# Altium footprint library Discrete_Resistors_Ceramic_SMD.PcbLib: 6 footprints
Each footprint in its own frame and in the unit in brackets; x right, y up, seen from the top. Pads: shape width x height; smd on the part's side, far side on the other; paste and mask are expansions set on the pad; w line width, h text height; cw(c..) or ccw(c..) is an arc to the next point about the centre after c.
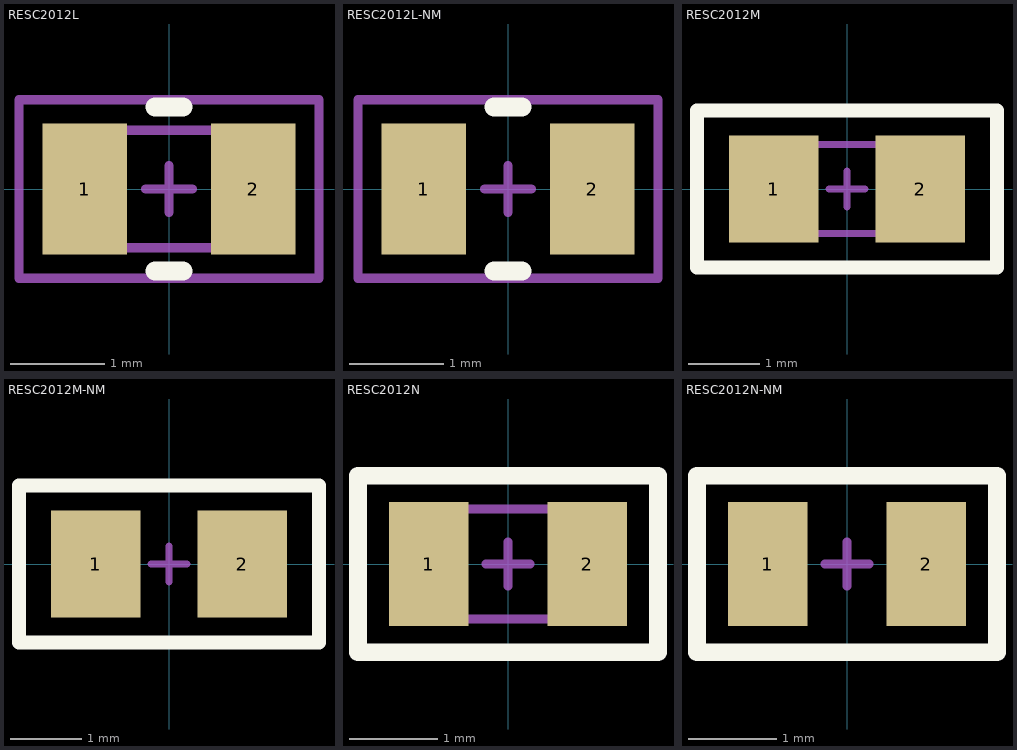
[diagram p0: the footprints below, top view; thin cyan lines are the x and y axes]

## RESC2012L [mm]
height 0.5
pads (2):
  rect 0.9x1.4 smd: 1(-0.9,0) 2(0.9,0)
Top Overlay:
  lines w0.2: -0.15,-0.875 0.15,-0.875 ; -0.15,0.875 0.15,0.875
Top Package:
  lines w0.1: -0.625,-0.625 -0.625,0.625 ; 0.6,-0.625 0.6,0.625 ; -1,-0.625 -1,0.625 1,0.625 1,-0.625 -1,-0.625
Top Comment:
  text ".Comment" at -1.414,-0.31 h1
Top Designator:
  text ".Designator" at -2.064,-0.265 h1.2
Top Border:
  lines w0.1: -0.25,0 0.25,0 ; 0,-0.25 0,0.25 ; -1.6,-0.95 1.6,-0.95 1.6,0.95 -1.6,0.95 -1.6,-0.95
3D body "User Library-Res_Vishay_CRCW0805_2012.step": height 0.45, standoff 0, extent -1,-0.625 1,0.625

## RESC2012L-NM [mm]
height 0.5
pads (2):
  rect 0.9x1.4 smd: 1(-0.9,0) 2(0.9,0)
Top Overlay:
  lines w0.2: -0.15,-0.875 0.15,-0.875 ; -0.15,0.875 0.15,0.875
Top Designator:
  text ".Designator" at -2.064,-0.265 h1.2
Top Border:
  lines w0.1: -0.25,0 0.25,0 ; 0,-0.25 0,0.25 ; -1.6,-0.95 -1.6,0.95 1.6,0.95 1.6,-0.95 -1.6,-0.95

## RESC2012M [mm]
height 0.5
pads (2):
  rect 1.25x1.5 smd: 1(-1.025,0) 2(1.025,0)
Top Overlay:
  lines w0.2: -2.1,-1.1 -2.1,1.1 2.1,1.1 2.1,-1.1 -2.1,-1.1
Top Package:
  lines w0.1: -0.625,-0.625 -0.625,0.625 ; 0.6,-0.625 0.6,0.625 ; -1,-0.625 -1,0.625 1,0.625 1,-0.625 -1,-0.625
Top Comment:
  text ".Comment" at -1.703,-0.376 h1.2
Top Designator:
  text ".Designator" at -2.581,-0.335 h1.5
Top Border:
  lines w0.1: -0.25,0 0.25,0 ; 0,-0.25 0,0.25 ; -2.1,-1.1 2.1,-1.1 2.1,1.1 -2.1,1.1 -2.1,-1.1
3D body "User Library-Res_Vishay_CRCW0805_2012.step": height 0.45, standoff 0, extent -1,-0.625 1,0.625
3D body "User Library-Res_Vishay_CRCW0805_2012.step": height 0.45, standoff 0, extent -1,-0.625 1,0.625

## RESC2012M-NM [mm]
height 0.5
pads (2):
  rect 1.25x1.5 smd: 1(-1.025,0) 2(1.025,0)
Top Overlay:
  lines w0.2: -2.1,-1.1 2.1,-1.1 2.1,1.1 -2.1,1.1 -2.1,-1.1
Top Designator:
  text ".Designator" at -2.581,-0.335 h1.5
Top Border:
  lines w0.1: -0.25,0 0.25,0 ; 0,-0.25 0,0.25 ; -2.1,-1.1 -2.1,1.1 2.1,1.1 2.1,-1.1 -2.1,-1.1

## RESC2012N [mm]
height 0.5
pads (2):
  rect 0.9x1.4 smd: 1(-0.9,0) 2(0.9,0)
Top Overlay:
  lines w0.2: -1.7,-1 -1.7,1 1.7,1 1.7,-1 -1.7,-1
Top Package:
  lines w0.1: -0.625,-0.625 -0.625,0.625 ; 0.6,-0.625 0.6,0.625 ; -1,-0.625 -1,0.625 1,0.625 1,-0.625 -1,-0.625
Top Comment:
  text ".Comment" at -1.703,-0.376 h1.2
Top Designator:
  text ".Designator" at -2.581,-0.335 h1.5
Top Border:
  lines w0.1: -0.25,0 0.25,0 ; 0,-0.25 0,0.25 ; -1.7,-1 1.7,-1 1.7,1 -1.7,1 -1.7,-1
3D body "User Library-Res_Vishay_CRCW0805_2012.step": height 0.45, standoff 0, extent -1,-0.625 1,0.625

## RESC2012N-NM [mm]
height 0.5
pads (2):
  rect 0.9x1.4 smd: 1(-0.9,0) 2(0.9,0)
Top Overlay:
  lines w0.2: -1.7,-1 -1.7,1 1.7,1 1.7,-1 -1.7,-1
Top Designator:
  text ".Designator" at -2.581,-0.335 h1.5
Top Border:
  lines w0.1: -0.25,0 0.25,0 ; 0,-0.25 0,0.25 ; -1.7,-1 1.7,-1 1.7,1 -1.7,1 -1.7,-1